# EAGLE library part 1-84952-2 (library RoboJackets-Connectors)
FPC Connector Brand: TE Connectivity <http://www.te.com/en/home.html> Series: AMP <http://www.digikey.com/product-search/en?FV=fff40016,fff80421,ffec975e> Distributor: Digi-Key <http://www.digikey.com/product-search/en?pv7=2&FV=fff40016%2Cfff80421%2C1600004&k=84952&mnonly=0&newproducts=0&ColumnSort=0&page=1&quantity=0&ptm=0&fid=0&pageSize=25>
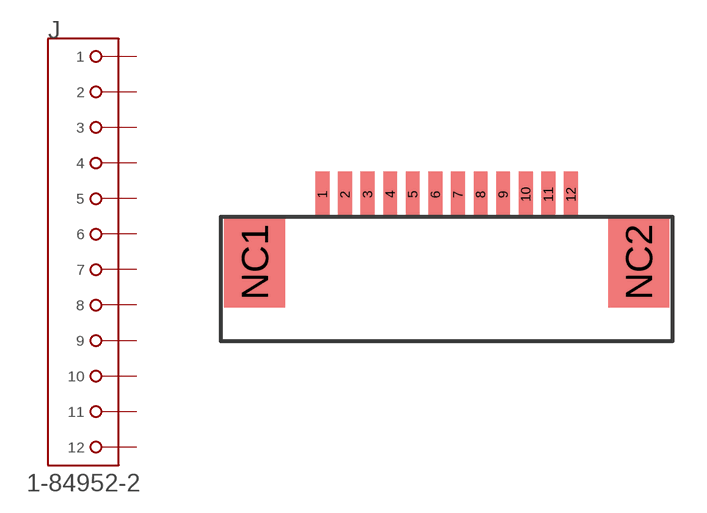
[diagram p6: symbol with the pads of 1-84952-2; footprint 1-84952-2]

Designator prefix J

## 1-84952-2 (PINS: 12; PIN_PITCH: 1.0 mm)  [1-84952-2]
1  1  pas
2  2  pas
3  3  pas
4  4  pas
5  5  pas
6  6  pas
7  7  pas
8  8  pas
9  9  pas
10  10  pas
11  11  pas
12  12  pas

## Footprint 1-84952-2 (pad centres in mm)
smd 0.61 x 2: 1 -5,3; 2 -4,3; 3 -3,3; 4 -2,3; 5 -1,3; 6 0,3; 7 1,3; 8 2,3; 9 3,3; 10 4,3; 11 5,3; 12 6,3
smd 2.7 x 4: NC1 -8,0; NC2 9,0